# Altium schematic symbol library 8channel.SCHLIB: 90 symbols
Pins are listed as number, name and electrical type; pins without a type are passive.

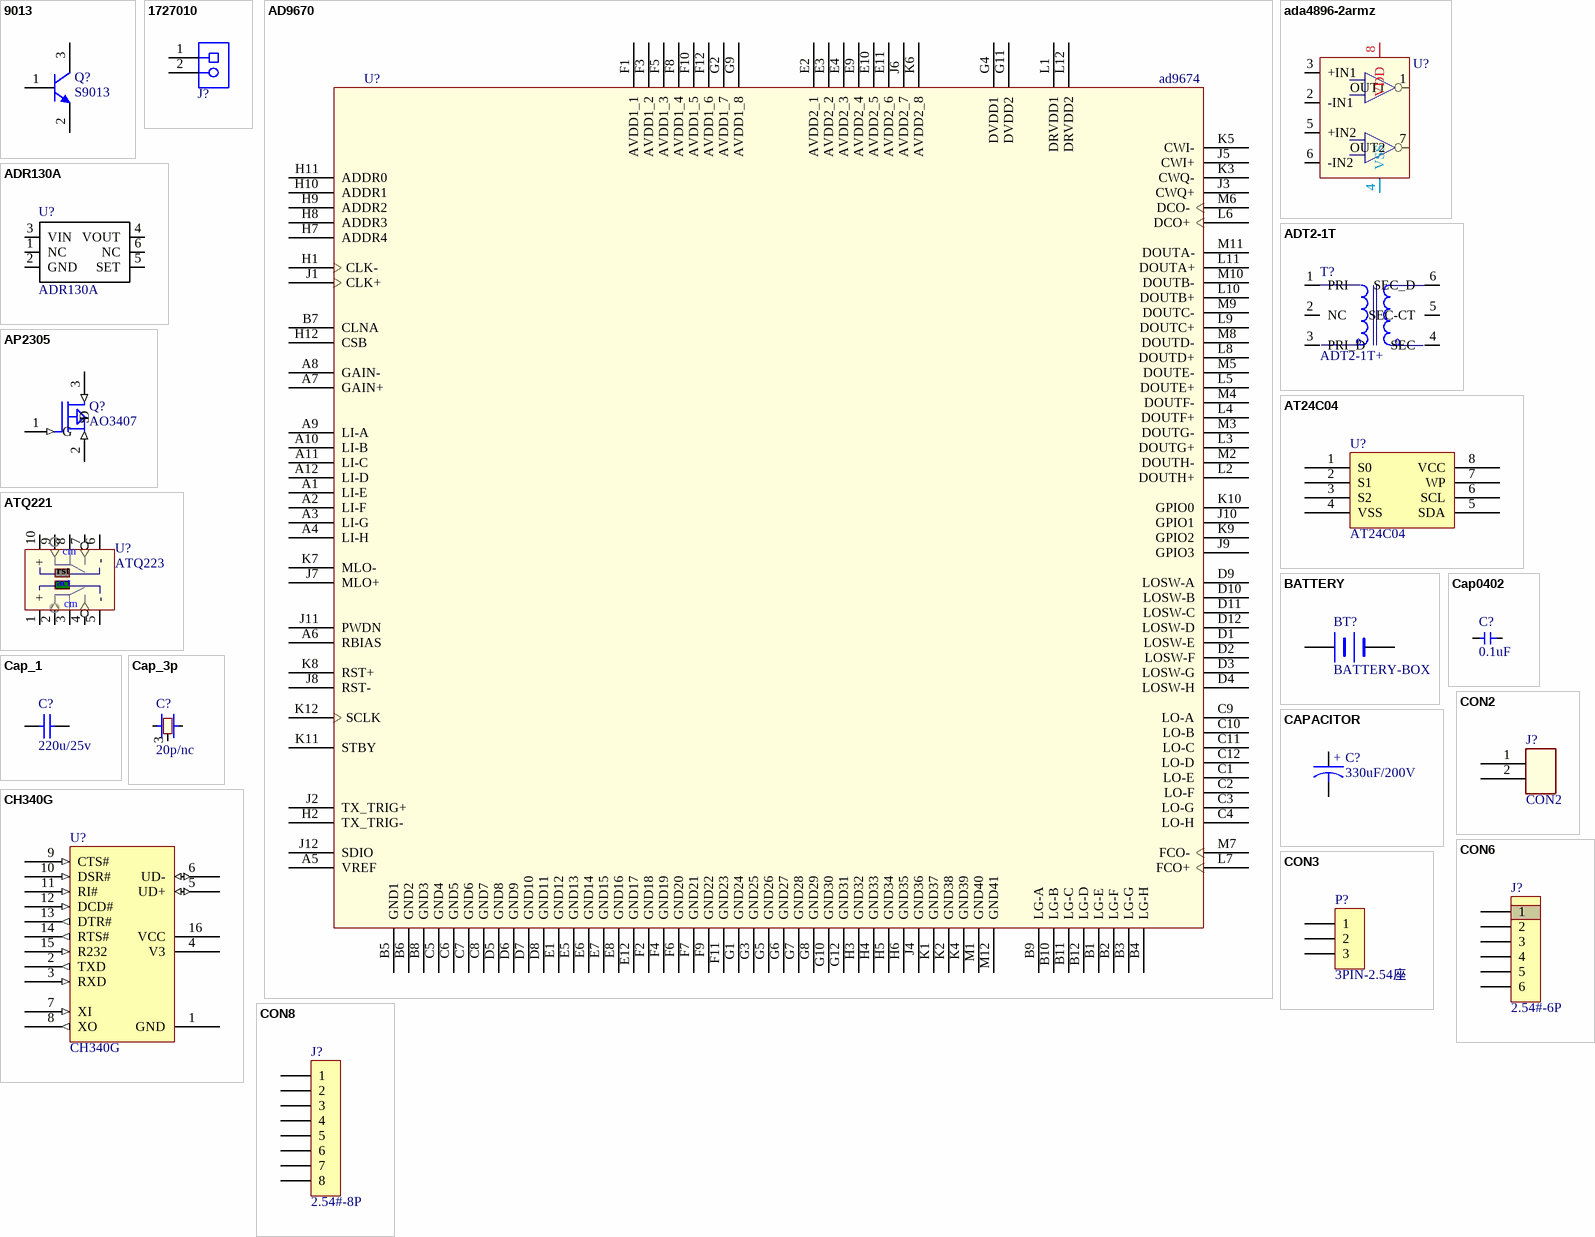
[diagram p0: symbols 9013 to CON8]

## 9013
designator Q?, comment S9013
NPN,S S9013,500mA; Revision 1: 11-Jul-2000: SIM Model Added.; Revision 2: 17-Jul-2002: Re-released for DXP Platform.; Revision 3: 15-Jan-2003: PCB Footprint 'BCY-W3/D4.7' replaced; Code - JEDEC: TO-92A; Published: 8-Jun-2000; Datasheet: Latest Revision: 1997; Package Reference: TO-92A; Publisher: Altium Limited
footprint SOT23
footprint SOT23-3
pins: 1 B, 2 E, 3 C

## 1727010
designator J?  (value not drawn)
Conn Term Block, 2POS, 3.81mm, TH; Manufacturer: Phoenix Contact; SymbolCreator: a0412235; CompType: Terminal Block; SymbolVersion: 2013-09-04; PartNumber: 1727010; PackageReference: 2POS Terminal Block; RoHS: Y; MountType: TH; ComponentLink1Description: Datasheet URL; ComponentLink1URL: http://eshop.phoenixcontact.com/phoenix/pdf.do?UID=1727010&general=usen; Publisher: Texas Instruments; LatestRevisionDate: 2017-01-19; Supplier 1: Digi-Key; Supplier Part Number 1: 277-1947-ND
footprint PhoenixConact_1727010
footprint PhoenixConact_1727010
pins: 1, 2

## AD9670
designator U?, comment ad9674
ADI,8 ch ultrasoinc AFE digi-demodule
footprint BC_144_1
pins: A1 LI-E, A2 LI-F, A3 LI-G, A4 LI-H, A5 VREF, A6 RBIAS, A7 GAIN+, A8 GAIN-, A9 LI-A, A10 LI-B, A11 LI-C, A12 LI-D, B1 LG-E, B2 LG-F, B3 LG-G, B4 LG-H, B5 GND1, B6 GND2, B7 CLNA, B8 GND3, B9 LG-A, B10 LG-B, B11 LG-C, B12 LG-D, C1 LO-E, C2 LO-F, C3 LO-G, C4 LO-H, C5 GND4, C6 GND5, C7 GND6, C8 GND7, C9 LO-A, C10 LO-B, C11 LO-C, C12 LO-D, D1 LOSW-E, D2 LOSW-F, D3 LOSW-G, D4 LOSW-H, D5 GND8, D6 GND9, D7 GND10, D8 GND11, D9 LOSW-A, D10 LOSW-B, D11 LOSW-C, D12 LOSW-D, E1 GND12, E2 AVDD2_1, E3 AVDD2_2, E4 AVDD2_3, E5 GND13, E6 GND14, E7 GND15, E8 GND16, E9 AVDD2_4, E10 AVDD2_5, E11 AVDD2_6, E12 GND17, F1 AVDD1_1, F2 GND18, F3 AVDD1_2, F4 GND19, F5 AVDD1_3, F6 GND20, F7 GND21, F8 AVDD1_4, F9 GND22, F10 AVDD1_5, F11 GND23, F12 AVDD1_6, G1 GND24, G2 AVDD1_7, G3 GND25, G4 DVDD1, G5 GND26, G6 GND27, G7 GND28, G8 GND29, G9 AVDD1_8, G10 GND30, G11 DVDD2, G12 GND31, H1 CLK-, H2 TX_TRIG-, H3 GND32, H4 GND33, H5 GND34, H6 GND35, H7 ADDR4, H8 ADDR3, H9 ADDR2, H10 ADDR1, H11 ADDR0, H12 CSB, J1 CLK+, J2 TX_TRIG+, J3 CWQ+, J4 GND36, J5 CWI+, J6 AVDD2_7, J7 MLO+, J8 RST-, J9 GPIO3, J10 GPIO1, J11 PWDN, J12 SDIO, K1 GND37, K2 GND38, K3 CWQ-, K4 GND39, K5 CWI-, K6 AVDD2_8, K7 MLO-, K8 RST+, K9 GPIO2, K10 GPIO0, K11 STBY, K12 SCLK, L1 DRVDD1, L2 DOUTH+, L3 DOUTG+, L4 DOUTF+, L5 DOUTE+, L6 DCO+, L7 FCO+, L8 DOUTD+, L9 DOUTC+, L10 DOUTB+, L11 DOUTA+, L12 DRVDD2, M1 GND40, M2 DOUTH-, M3 DOUTG-, M4 DOUTF-, M5 DOUTE-, M6 DCO-, M7 FCO-, M8 DOUTD-, M9 DOUTC-, M10 DOUTB-, M11 DOUTA-, M12 GND41

## ada4896-2armz
designator U?, comment R2R Amp x2,Vdd+Vss  (value not drawn)
footprint MSOP8 (0.65PITCH,WIDTH5MM)
pins: 1 OUT1, 2 -IN1, 3 +IN1, 4 VSS, 5 +IN2, 6 -IN2, 7 OUT2, 8 VDD

## ADR130A
designator U?
ADR130AUJZ-REEL7,volt-ref,4ma,Vin2-18v,28rmb; RefDes: RefDes; Type: DEV; Value: Value
footprint UJ_6
pins: 1 NC, 2 GND, 3 VIN, 4 VOUT, 5 SET, 6 NC

## ADT2-1T
designator T?, comment ADT2-1T+
MINI-CIRCUITS,0.4-500MHZ SECONDARY/PRIMARY2:1 RF trans,50R,0.25W
footprint SOP254P770X284-6N (SOP, 6-Leads, Body 7.9x5.6mm (max), Pitch 2.54mm, IPC Medium Density)
pins: 1 PRI, 2 NC, 3 PRI_D, 4 SEC, 5 SEC-CT, 6 SEC_D

## AP2305
designator Q?, comment AO3407
PMOS,4A,30V
footprint SOT-23
pins: 1 G (in), 2 S (in), 3 D (in)

## AT24C04
designator U?
footprint AT24C04-SOP8-A
pins: 1 S0, 2 S1, 3 S2, 4 VSS, 5 SDA, 6 SCL, 7 WP, 8 VCC
2 alternate drawings of the same symbol

## ATQ221
designator U?, comment ATQ223
TQ2SA-L2-3,ATQ221SAZ松下，双线圈磁保持型
footprint SOP10-ATQ221 (panasonic ATQ221 relay)
pins: 1 +, 2, 3, 4, 5 -, 6 -, 7 4, 8 3, 9 2, 10 +
text: cm; rst; act

## BATTERY
designator BT?, comment BATTERY-BOX
Battery
footprint BATTERY
pins: 1 +, 2 -
2 alternate drawings of the same symbol

## Cap0402
designator C?, comment 0.1uF
Ceramic Cap; Published: 8-Jun-2000; LatestRevisionDate: 17-Jul-2002; LatestRevisionNote: Re-released for DXP Platform.; PackageReference: RAD-0.3; Publisher: Altium Limited
footprint RAD-0.3 (Capacitor; 2 Leads)
footprint VP32-3.2 (Capacitor, Ceramic, Thru-Hole, Dipped Radial; Body 5.1 x 3.2 mm (WxT) Pin Spacing 2.54 mm (typ))
footprint VP45-3.2 (Capacitor, Ceramic, Thru-Hole, Dipped Radial; Body 7.8 x 3.2 mm (WxT) Pin Spacing 5.08 mm (typ))
footprint C0603
footprint C0402
pins: 1, 2

## Cap_1
designator C?, comment 220u/25v
220u/1206; Published: 8-Jun-2000; Revision: July-2002: Re-released for DXP Platform.; Publisher: Altium Limited
footprint 0603
footprint 1206
footprint 0805
footprint CAP_3KV
footprint 0402
pins: 1, 2

## Cap_3p
designator C?, comment 20p/nc
Capacitor; Published: 8-Jun-2000; Revision: July-2002: Re-released for DXP Platform.; Publisher: Altium Limited
footprint C0805-3P (C0805，NFM or NFL)
pins: 1, 2, 3 G

## CAPACITOR
designator C?, comment 330uF/200V
Capacitor
footprint PEG225-27
footprint CAP_SMD9
footprint 1206
footprint 7343
footprint P1812 (Chip Capacitor; Body 4.5 x 3.2 mm (LxW typ))
footprint CAP-17mm-7mm (body17mm,pin-pitch7mm)
footprint CAP_SMD7 (body7mm)
footprint CAP_SMD12_5
pins: 1, 2
text: +

## CH340G
designator U?
USB to UART
footprint SSOP16 (Footprint not found)
pins: 1 GND (power), 2 TXD (out), 3 RXD (in), 4 V3 (power), 5 UD+ (io), 6 UD- (io), 7 XI (in), 8 XO (out), 9 CTS# (in), 10 DSR# (in), 11 RI# (in), 12 DCD# (in), 13 DTR# (out), 14 RTS# (out), 15 R232 (in), 16 VCC (power)

## CON2
designator J?
PIN2-2.54,SOCKET
footprint CON2_2_54P
pins: 1, 2

## CON3
designator P?, comment 3PIN-2.54座
Connector
footprint SIP2
footprint HDR1X2 (Connector; Header; 2 Position)
footprint HDR* (Footprint not found)
footprint HDR1X3 (Connector; Header; 3 Position)
pins: 1, 2, 3

## CON6
designator J?, comment 2.54#-6P
6 pins,pitch 2.54mm
footprint SIP8
footprint SIP6 (Pitch=2.54,6 pin)
pins: 1, 2, 3, 4, 5, 6

## CON8
designator J?, comment 2.54#-8P
Connector
footprint SIP8
pins: 1, 2, 3, 4, 5, 6, 7, 8

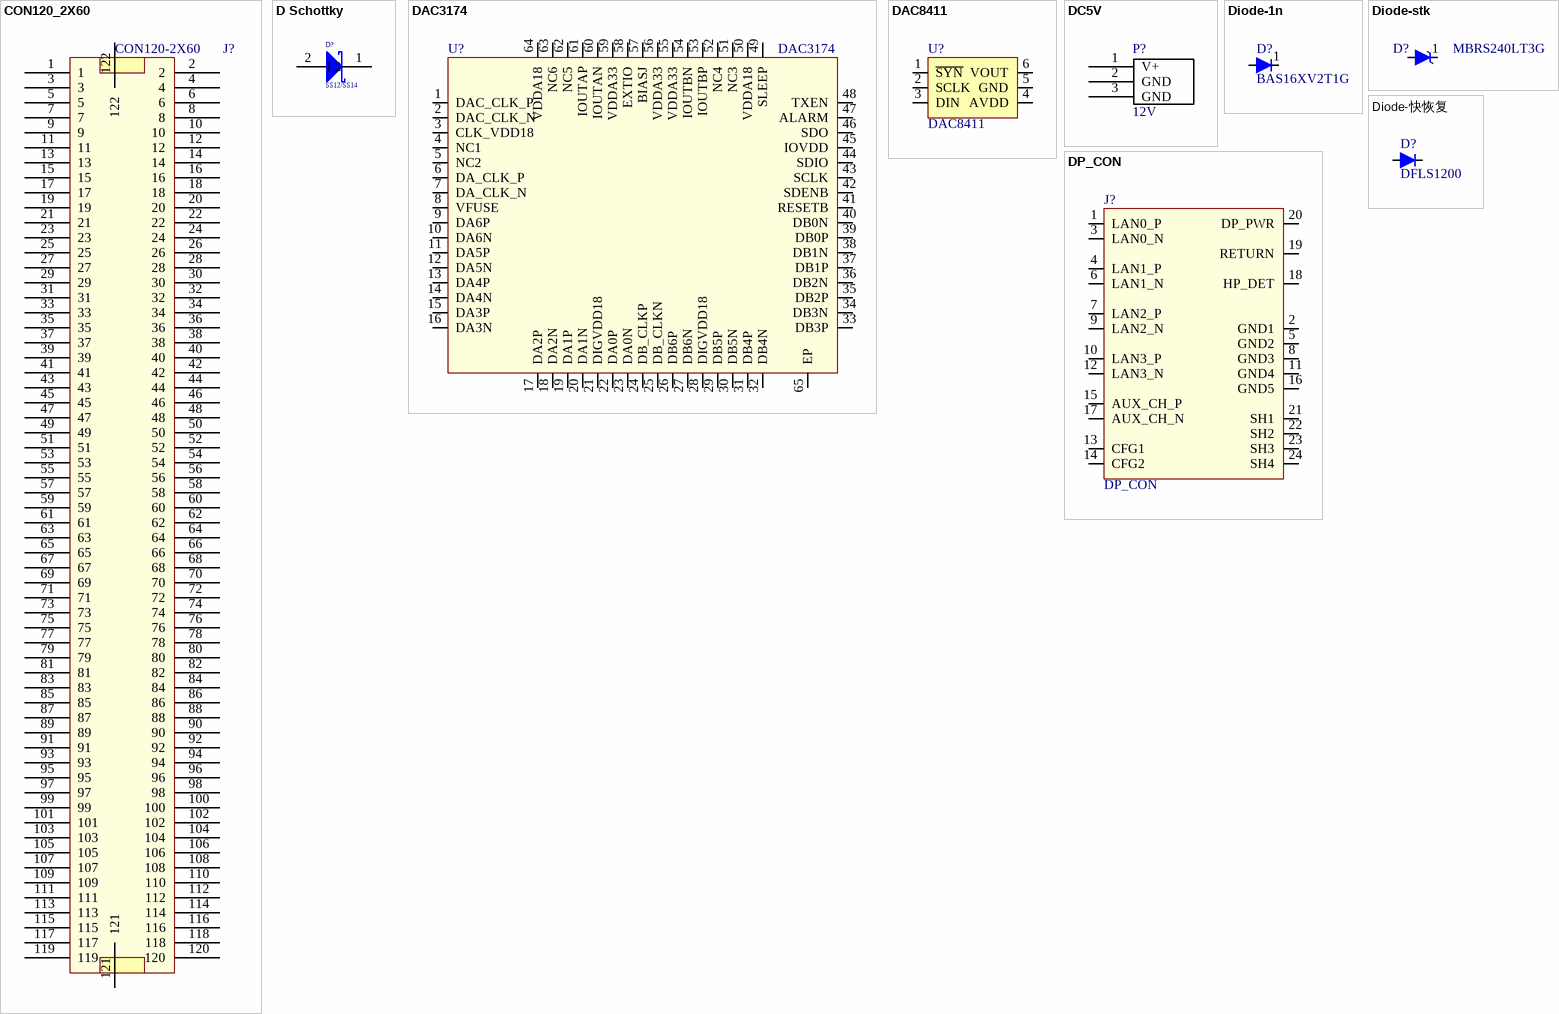
[diagram p1: symbols CON120_2X60 to DP_CON]

## CON120_2X60
designator J?, comment CON120-2X60
PANASONIC,AXK6A2337YG,120PIN MALE
footprint AXK6A2337YG
pins: 1, 2, 3, 4, 5, 6, 7, 8, 9, 10, 11, 12, 13, 14, 15, 16, 17, 18, 19, 20, 21, 22, 23, 24, 25, 26, 27, 28, 29, 30, 31, 32, 33, 34, 35, 36, 37, 38, 39, 40, 41, 42, 43, 44, 45, 46, 47, 48, 49, 50, 51, 52, 53, 54, 55, 56, 57, 58, 59, 60, 61, 62, 63, 64, 65, 66, 67, 68, 69, 70, 71, 72, 73, 74, 75, 76, 77, 78, 79, 80, 81, 82, 83, 84, 85, 86, 87, 88, 89, 90, 91, 92, 93, 94, 95, 96, 97, 98, 99, 100, 101, 102, 103, 104, 105, 106, 107, 108, 109, 110, 111, 112, 113, 114, 115, 116, 117, 118, 119, 120, 121, 122

## D Schottky
designator D?, comment SS12/SS14
Schottky Diode; Published: 8-Jun-2000; LatestRevisionDate: 17-Jul-2002; LatestRevisionNote: Re-released for DXP Platform.; PackageReference: SMB; Publisher: Altium Limited; Code_JEDEC: DO-214-AA
footprint TVR1812
footprint SMA/DO-214AC-# (高1.91-2.67)
footprint DO-214AC# (Pin1负，高1.91-2.67)
pins: 1, 2

## DAC3174
designator U?
2CH,DAC,15BIT 500M,300RMB
footprint QFN50P900X900X80-64N (QFN, 64-Leads, Body 8.9x8.9mm (max), Pitch 0.50mm, IPC Medium Density)
pins: 1 DAC_CLK_P, 2 DAC_CLK_N, 3 CLK_VDD18, 4 NC1, 5 NC2, 6 DA_CLK_P, 7 DA_CLK_N, 8 VFUSE, 9 DA6P, 10 DA6N, 11 DA5P, 12 DA5N, 13 DA4P, 14 DA4N, 15 DA3P, 16 DA3N, 17 DA2P, 18 DA2N, 19 DA1P, 20 DA1N, 21 DIGVDD18, 22 DA0P, 23 DA0N, 24 DB_CLKP, 25 DB_CLKN, 26 DB6P, 27 DB6N, 28 DIGVDD18, 29 DB5P, 30 DB5N, 31 DB4P, 32 DB4N, 33 DB3P, 34 DB3N, 35 DB2P, 36 DB2N, 37 DB1P, 38 DB1N, 39 DB0P, 40 DB0N, 41 RESETB, 42 SDENB, 43 SCLK, 44 SDIO, 45 IOVDD, 46 SDO, 47 ALARM, 48 TXEN, 49 SLEEP, 50 VDDA18, 51 NC3, 52 NC4, 53 IOUTBP, 54 IOUTBN, 55 VDDA33, 56 VDDA33, 57 BIASJ, 58 EXTIO, 59 VDDA33, 60 IOUTAN, 61 IOUTAP, 62 NC5, 63 NC6, 64 VDDA18, 65 EP

## DAC8411
designator U?
TI,16BITS DAC
footprint PLR0504F_TSOP6
pins: 1 ~{SYN}, 2 SCLK, 3 DIN, 4 AVDD, 5 GND, 6 VOUT

## DC5V
designator P?, comment 12V
footprint DC005-2.0MM (DC005-2.0)
pins: 1 V+, 2 GND, 3 GND

## Diode-1n
designator D?, comment BAS16XV2T1G
pin1-negative,BAS16XV2T1G,onsemi,Mark-A6,package SOD523/0603
footprint D0805
footprint D1206
footprint D1605-DIP
footprint D8060-SMD
footprint D7227-SMD-SS(1-3)4
footprint sod523 (BAS16XV2T1G)
pins: 1 K "negative", 2 A

## Diode-stk
designator D?, comment MBRS240LT3G
Schottky Diode,pin1-negative,BMBRS240LT3G,onsemi
footprint D0805
footprint D1206
footprint sod523 (BAS16XV2T1G)
footprint SMB/CASE403A (Pin1-Negative)
pins: 1 K "negative", 2 A "Postive"

## Diode-快恢复
designator D?, comment DFLS1200
DFLS1200,VR200V,DIODES INCOR
footprint D0805
footprint D1206
footprint D1605-DIP
footprint D8060-SMD
footprint D7227-SMD-SS(1-3)4
footprint D1206-2N (,Pin2-Negative)
pins: 1 A, 2 K

## DP_CON
designator J?
DP DISPLAY CONNECT,CON_MOLEX_47272
footprint CON_MOLEX_47272
pins: 1 LAN0_P, 2 GND1, 3 LAN0_N, 4 LAN1_P, 5 GND2, 6 LAN1_N, 7 LAN2_P, 8 GND3, 9 LAN2_N, 10 LAN3_P, 11 GND4, 12 LAN3_N, 13 CFG1, 14 CFG2, 15 AUX_CH_P, 16 GND5, 17 AUX_CH_N, 18 HP_DET, 19 RETURN, 20 DP_PWR, 21 SH1, 22 SH2, 23 SH3, 24 SH4

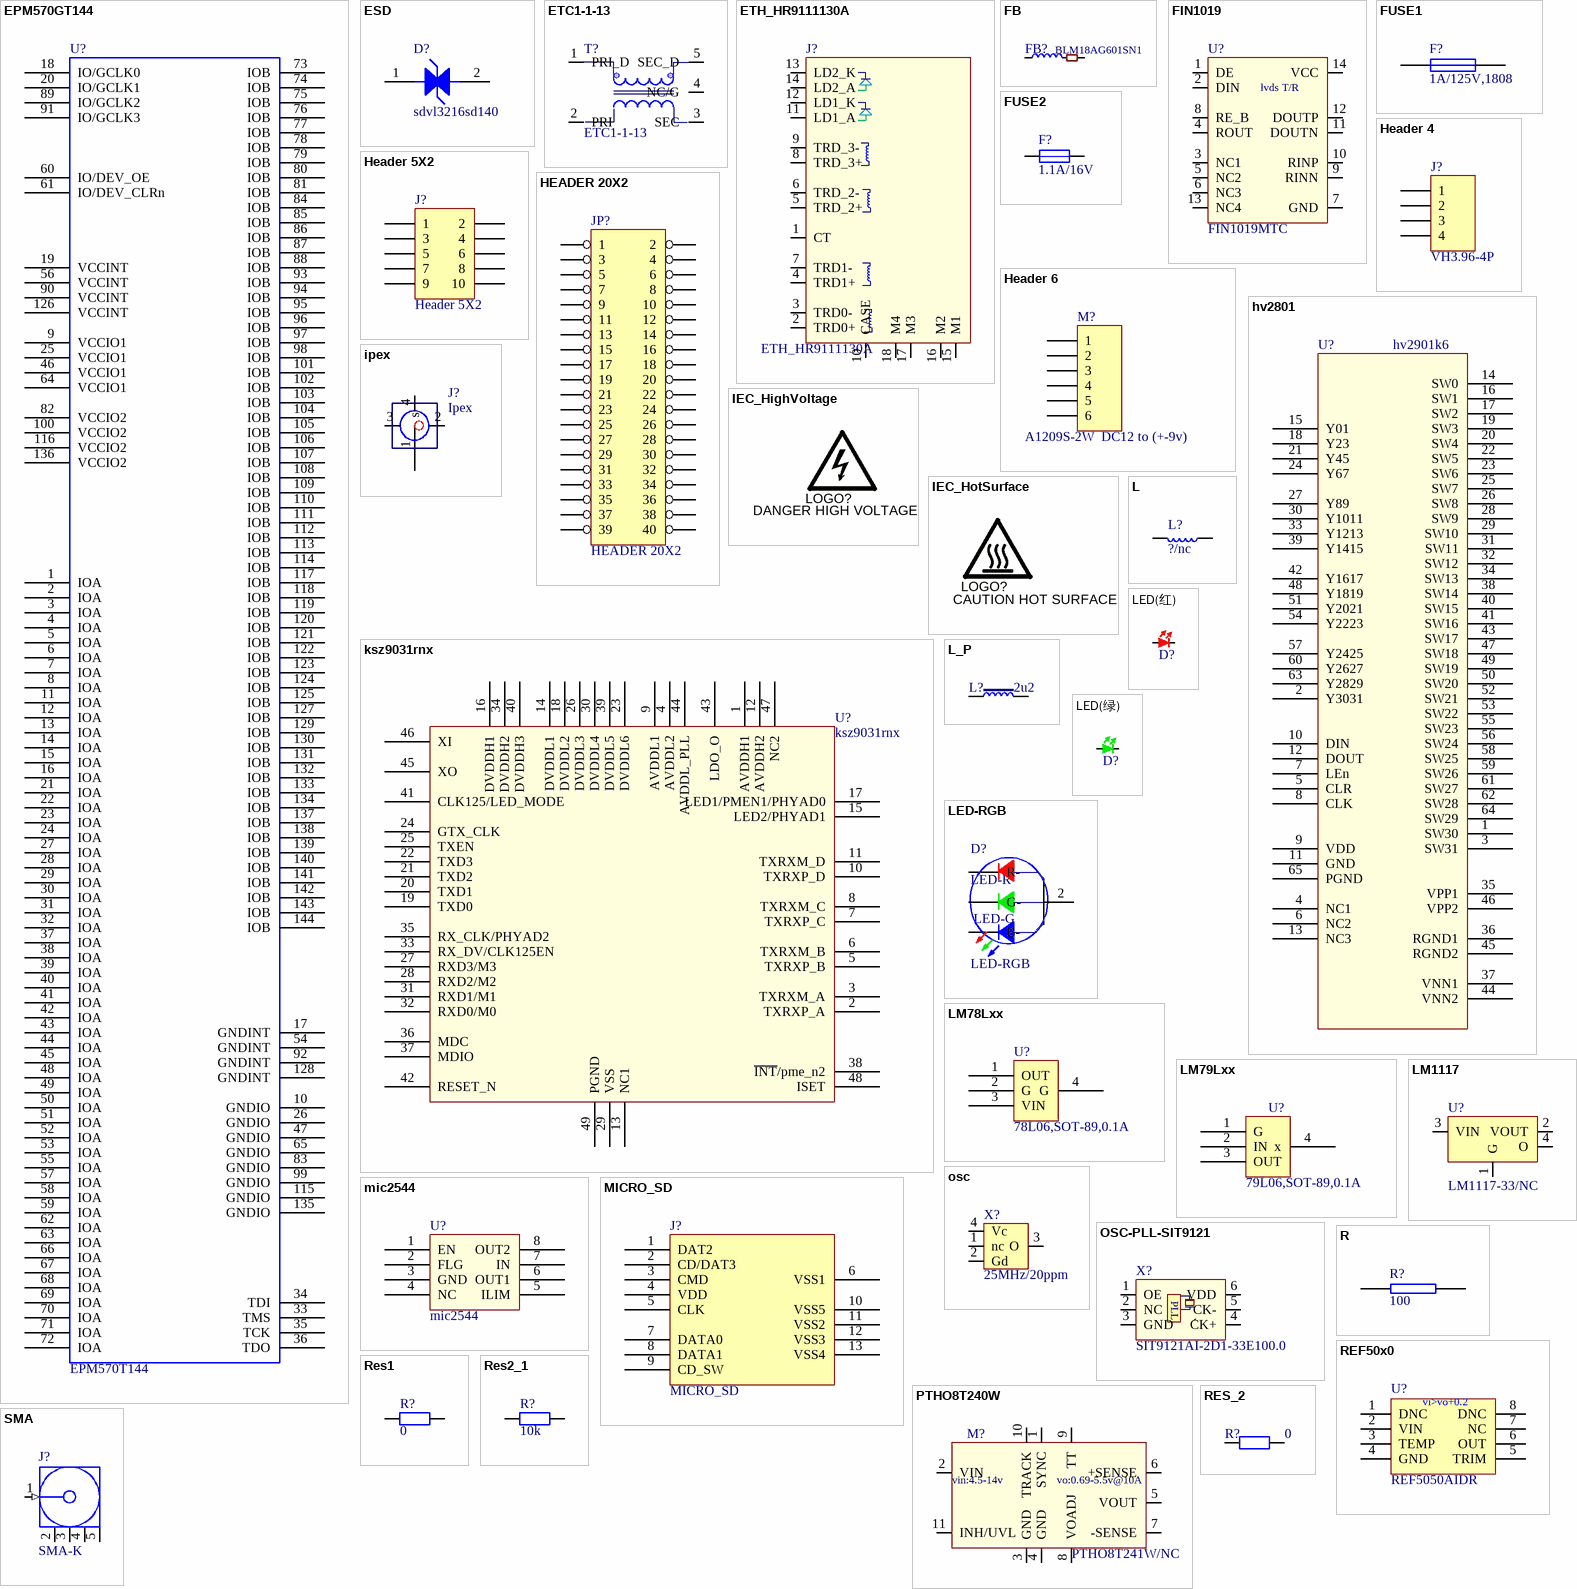
[diagram p2: symbols EPM570GT144 to SMA]

## EPM570GT144
designator U?, comment EPM570T144
altera CPLD
footprint LQFP144D28
footprint TQFP144_N (Thin QFP, 144-Leads, Body 20x20mm, Pitch 0.5mm, IPC Medium Density)
pins: 1 IOA, 2 IOA, 3 IOA, 4 IOA, 5 IOA, 6 IOA, 7 IOA, 8 IOA, 9 VCCIO1, 10 GNDIO, 11 IOA, 12 IOA, 13 IOA, 14 IOA, 15 IOA, 16 IOA, 17 GNDINT, 18 IO/GCLK0, 19 VCCINT, 20 IO/GCLK1, 21 IOA, 22 IOA, 23 IOA, 24 IOA, 25 VCCIO1, 26 GNDIO, 27 IOA, 28 IOA, 29 IOA, 30 IOA, 31 IOA, 32 IOA, 33 TMS, 34 TDI, 35 TCK, 36 TDO, 37 IOA, 38 IOA, 39 IOA, 40 IOA, 41 IOA, 42 IOA, 43 IOA, 44 IOA, 45 IOA, 46 VCCIO1, 47 GNDIO, 48 IOA, 49 IOA, 50 IOA, 51 IOA, 52 IOA, 53 IOA, 54 GNDINT, 55 IOA, 56 VCCINT, 57 IOA, 58 IOA, 59 IOA, 60 IO/DEV_OE, 61 IO/DEV_CLRn, 62 IOA, 63 IOA, 64 VCCIO1, 65 GNDIO, 66 IOA, 67 IOA, 68 IOA, 69 IOA, 70 IOA, 71 IOA, 72 IOA, 73 IOB, 74 IOB, 75 IOB, 76 IOB, 77 IOB, 78 IOB, 79 IOB, 80 IOB, 81 IOB, 82 VCCIO2, 83 GNDIO, 84 IOB, 85 IOB, 86 IOB, 87 IOB, 88 IOB, 89 IO/GCLK2, 90 VCCINT, 91 IO/GCLK3, 92 GNDINT, 93 IOB, 94 IOB, 95 IOB, 96 IOB, 97 IOB, 98 IOB, 99 GNDIO, 100 VCCIO2, 101 IOB, 102 IOB, 103 IOB, 104 IOB, 105 IOB, 106 IOB, 107 IOB, 108 IOB, 109 IOB, 110 IOB, 111 IOB, 112 IOB, 113 IOB, 114 IOB, 115 GNDIO, 116 VCCIO2, 117 IOB, 118 IOB, 119 IOB, 120 IOB, 121 IOB, 122 IOB, 123 IOB, 124 IOB, 125 IOB, 126 VCCINT, 127 IOB, 128 GNDINT, 129 IOB, 130 IOB, 131 IOB, 132 IOB, 133 IOB, 134 IOB, 135 GNDIO, 136 VCCIO2, 137 IOB, 138 IOB, 139 IOB, 140 IOB, 141 IOB, 142 IOB, 143 IOB, 144 IOB

## ESD
designator D?, comment sdvl3216sd140
footprint 0402
footprint L-1206#
footprint D1812
pins: 1, 2

## ETC1-1-13
designator T?
MACON,4.5-3000MHZ 1:1 RF trans
footprint SOT127P490X280-5N (SOT23, 5-Leads, Body 3.8x5.0mm (max), Pitch 1.27mm, IPC Medium Density)
pins: 1 PRI_D, 2 PRI, 3 SEC, 4 NC/G, 5 SEC_D

## ETH_HR9111130A
designator J?
footprint GE_RJ45
pins: 1 CT, 2 TRD0+, 3 TRD0-, 4 TRD1+, 5 TRD_2+, 6 TRD_2-, 7 TRD1-, 8 TRD_3+, 9 TRD_3-, 10 CASE, 11 LD1_A, 12 LD1_K, 13 LD2_K, 14 LD2_A, 15 M1, 16 M2, 17 M3, 18 M4

## FB
designator FB?, comment BLM18AG601SN1
Ferrite Bead,600R@100M,25%,200mA,0603; Published: 8-Jun-2000; Revision: July-2002: Re-released for DXP Platform.; Publisher: Altium Limited
footprint 0603
footprint 1206
footprint 0805
footprint 2512
pins: 1, 2
1 alternate drawing of the same symbol

## FIN1019
designator U?, comment FIN1019MTC
HS LVDS T/R
footprint TSSOP_14
pins: 1 DE, 2 DIN, 3 NC1, 4 ROUT, 5 NC2, 6 NC3, 7 GND, 8 RE_B, 9 RINN, 10 RINP, 11 DOUTN, 12 DOUTP, 13 NC4, 14 VCC
text: lvds T/R

## FUSE1
designator F?, comment 1A/125V,1808
PPTC SMD Fuse,1A/125V,1808
footprint 2220
footprint 1812 (Chip Capacitor; Body 4.5 x 3.2 mm (LxW typ))
pins: 1, 2

## FUSE2
designator F?, comment 1.1A/16V
Fuse
footprint 2220
footprint 1812 (Chip Capacitor; Body 4.5 x 3.2 mm (LxW typ))
pins: 1, 2

## Header 4
designator J?, comment VH3.96-4P
Header, 4-Pin; LatestRevisionDate: 17-Jul-2002; LatestRevisionNote: Re-released for DXP Platform.; Publisher: Altium Limited
signal-integrity model Connector
footprint VH3.96-4P
footprint XH2.54-4P
footprint VH3.96-4P
pins: 1, 2, 3, 4

## Header 5X2
designator J?
Header, 5-Pin, Dual row; LatestRevisionDate: 17-Jul-2002; LatestRevisionNote: Re-released for DXP Platform.; Publisher: Altium Limited
footprint HDR2X5 (Connector; Header; 5x2 Position)
signal-integrity model Connector
pins: 1, 2, 3, 4, 5, 6, 7, 8, 9, 10

## Header 6
designator M?, comment A1209S-2W  DC12 to (+-9v)
Header, 6-Pin; LatestRevisionDate: 17-Jul-2002; LatestRevisionNote: Re-released for DXP Platform.; Publisher: Altium Limited
footprint HDR1X6 (Connector; Header; 6 Position)
signal-integrity model Connector
footprint FTSH-10 (SOP, 10-Leads, Body 10.5x3.0mm (max), Pitch 1.27mm, IPC Medium Density)
footprint CN-P2.54-FAT-6P
pins: 1, 2, 3, 4, 5, 6

## HEADER 20X2
designator JP?
footprint IDC-40J
pins: 1, 2, 3, 4, 5, 6, 7, 8, 9, 10, 11, 12, 13, 14, 15, 16, 17, 18, 19, 20, 21, 22, 23, 24, 25, 26, 27, 28, 29, 30, 31, 32, 33, 34, 35, 36, 37, 38, 39, 40

## hv2801
designator U?, comment hv2901k6
microchip,32ch high-volt analog switch
footprint QFN64 (Footprint not found)
footprint QFN50P900X900X100-64N (QFN, 64-Leads, Body 9.1x9.1mm (max), Pitch 0.50mm, IPC Medium Density)
pins: 1 SW30, 2 Y3031, 3 SW31, 4 NC1, 5 CLR, 6 NC2, 7 LEn, 8 CLK, 9 VDD, 10 DIN, 11 GND, 12 DOUT, 13 NC3, 14 SW0, 15 Y01, 16 SW1, 17 SW2, 18 Y23, 19 SW3, 20 SW4, 21 Y45, 22 SW5, 23 SW6, 24 Y67, 25 SW7, 26 SW8, 27 Y89, 28 SW9, 29 SW10, 30 Y1011, 31 SW11, 32 SW12, 33 Y1213, 34 SW13, 35 VPP1, 36 RGND1, 37 VNN1, 38 SW14, 39 Y1415, 40 SW15, 41 SW16, 42 Y1617, 43 SW17, 44 VNN2, 45 RGND2, 46 VPP2, 47 SW18, 48 Y1819, 49 SW19, 50 SW20, 51 Y2021, 52 SW21, 53 SW22, 54 Y2223, 55 SW23, 56 SW24, 57 Y2425, 58 SW25, 59 SW26, 60 Y2627, 61 SW27, 62 SW28, 63 Y2829, 64 SW29, 65 PGND

## IEC_HighVoltage
designator LOGO?, comment DANGER HIGH VOLTAGE  (graphical)
IEC 61010-1 High Voltage Warning; SymbolCreator: a0412235; SymbolVersion: 2011-08-22; Published: 2009-03-03; Publisher: Texas Instruments; LatestRevisionDate: 2016-03-21
footprint IEC_HighVoltage_Large
footprint IEC_HighVoltage_Medium
footprint IEC_HighVoltage_Small
footprint IEC_HighVoltage_Small

## IEC_HotSurface
designator LOGO?, comment CAUTION HOT SURFACE  (graphical)
IEC 61010-1 Hot Surface Warning; SymbolCreator: a0412235; SymbolVersion: 2011-08-22; Published: 2009-03-03; Publisher: Texas Instruments; LatestRevisionDate: 2016-03-21
footprint IEC_HotSurface_Large
footprint IEC_HotSurface_Medium
footprint IEC_HotSurface_Small
footprint IEC_HotSurface_Small

## ipex
designator J?, comment Ipex
ULF, IPX 20279-001E , 3*3*1.25MM ,50Ω,0-4GHZ
footprint ipex-4p (4 pin,pad pitch 2.6mm,cylinder 2mm)
pins: 1 s, 2 g, 3 g2, 4 g3

## ksz9031rnx
designator U?
footprint QFN_7X7
pins: 1 AVDDH1, 2 TXRXP_A, 3 TXRXM_A, 4 AVDDL2, 5 TXRXP_B, 6 TXRXM_B, 7 TXRXP_C, 8 TXRXM_C, 9 AVDDL1, 10 TXRXP_D, 11 TXRXM_D, 12 AVDDH2, 13 NC1, 14 DVDDL1, 15 LED2/PHYAD1, 16 DVDDH1, 17 LED1/PMEN1/PHYAD0, 18 DVDDL2, 19 TXD0, 20 TXD1, 21 TXD2, 22 TXD3, 23 DVDDL6, 24 GTX_CLK, 25 TXEN, 26 DVDDL3, 27 RXD3/M3, 28 RXD2/M2, 29 VSS, 30 DVDDL4, 31 RXD1/M1, 32 RXD0/M0, 33 RX_DV/CLK125EN, 34 DVDDH2, 35 RX_CLK/PHYAD2, 36 MDC, 37 MDIO, 38 ~{INT}/pme_n2, 39 DVDDL5, 40 DVDDH3, 41 CLK125/LED_MODE, 42 RESET_N, 43 LDO_O, 44 AVDDL_PLL, 45 XO, 46 XI, 47 NC2, 48 ISET, 49 PGND

## L
designator L?, comment ?/nc
inductor; Published: 8-Jun-2000; Revision: July-2002: Re-released for DXP Platform.; Publisher: Altium Limited
footprint 0603
footprint 1206
footprint 0805
footprint 2512
pins: 1, 2
1 alternate drawing of the same symbol

## L_P
designator L?, comment 2u2
power inductor; Published: 8-Jun-2000; Revision: July-2002: Re-released for DXP Platform.; Publisher: Altium Limited
footprint 0603
footprint 1206
footprint 0805
footprint 2512
footprint CDRH6D38NP_5R
footprint COILCRAFT-1008PS
pins: 1, 2
1 alternate drawing of the same symbol

## LED(红)
designator D?  (value not drawn)
footprint LED0603
footprint LED0805
pins: 1, 2

## LED(绿)
designator D?  (value not drawn)
footprint LED0603
footprint LED0805
footprint LED-5mm (dip,2pin, pitch 2.7mm, diam 5mm)
pins: 1, 2

## LED-RGB
designator D?
Red+Green+Blue LED in One ball,4 pin
footprint LEDx3 (3 in 1 ball,5.8x8.8mm)
pins: 1 R-, 2 COM+, 3 G-, 4 B-
text: LED-R; LED-G

## LM78Lxx
designator U?, comment 78L06,SOT-89,0.1A
footprint SOT-223
footprint SOT-89 (SOT-89,small package of SOT-23)
pins: 1 OUT, 2 G, 3 VIN, 4 G

## LM79Lxx
designator U?, comment 79L06,SOT-89,0.1A
footprint SOT-223
footprint SOT-89 (SOT-89,small package of SOT-23)
pins: 1 G, 2 IN, 3 OUT, 4 x

## LM1117
designator U?, comment LM1117-33/NC
LDO,1A,国产大部分不稳定
footprint SOT-223#
pins: 1 G, 2 VOUT, 3 VIN, 4 O

## mic2544
designator U?
USB PROG CURRENT LIMIT
footprint MSOP8
pins: 1 EN, 2 FLG, 3 GND, 4 NC, 5 ILIM, 6 OUT1, 7 IN, 8 OUT2

## MICRO_SD
designator J?
MICRO_SD socket, 9P
footprint MICRO_SD
pins: 1 DAT2, 2 CD/DAT3, 3 CMD, 4 VDD, 5 CLK, 6 VSS1, 7 DATA0, 8 DATA1, 9 CD_SW, 10 VSS5, 11 VSS2, 12 VSS3, 13 VSS4

## osc
designator X?, comment 25MHz/20ppm
oscillator,25Mhz,20ppm,4pin,0.8-3.3Vin
footprint CRYSTAL-SMT7X5
footprint XTAL-5032 (SMT,5.0x3.2mm, pin1/3 sig;pin2/4 gnd)
footprint XTAL-3225 (SMT,3.2x2.5mm, pin1/3 sig;pin2/4 gnd)
footprint XTAL-2016 (SMT,2.05x1.65mm, pin1/3 sig;pin2/4 gnd)
pins: 1 nc, 2 Gd, 3 O, 4 Vc

## OSC-PLL-SIT9121
designator X?, comment SIT9121AI-2D1-33E100.0
PLL,high-speed lvds clock
footprint OSC6-5X7
pins: 1 OE, 2 NC, 3 GND, 4 CK+, 5 CK-, 6 VDD
text: PLL

## PTHO8T240W
designator M?, comment PTHO8T241W/NC
PTHO8T240W/241W,10A,Vin4.5-14V,Vout0.7-5.5V
footprint PTH08T24X_EBS (EBS,Throught-Hole-Model)
pins: 1 SYNC, 2 VIN, 3 GND, 4 GND, 5 VOUT, 6 +SENSE, 7 -SENSE, 8 VOADJ, 9 TT, 10 TRACK, 11 INH/UVL
text: vin:4.5-14v; vo:0.69-5.5v@10A

## R
designator R?, comment 100
SMD2512
footprint 2512
footprint 0805
pins: 1, 2

## REF50x0
designator U?, comment REF5050AIDR
TI,volt ref,
footprint SO-8
pins: 1 DNC, 2 VIN, 3 TEMP, 4 GND, 5 TRIM, 6 OUT, 7 NC, 8 DNC
text: vi>vo+0.2

## Res1
designator R?, comment 0
Resistor; Published: 8-Jun-2000; Revision: July-2002: Re-released for DXP Platform.; Publisher: Altium Limited
footprint 0603
footprint 1206
footprint 0805
footprint 2512
footprint 1210
footprint 2010L
pins: 1, 2
1 alternate drawing of the same symbol

## Res2_1
designator R?, comment 10k
Resistor; Published: 8-Jun-2000; Revision: July-2002: Re-released for DXP Platform.; Publisher: Altium Limited
footprint 0603
footprint 1206
footprint 0805
footprint 2512
footprint 0402 (Chip Capacitor; Body 1.0 x 0.5 mm (LxW typ))
pins: 1, 2
1 alternate drawing of the same symbol

## RES_2
designator R?, comment 0
Resistor; Published: 8-Jun-2000; LatestRevisionDate: 17-Jul-2002; LatestRevisionNote: Re-released for DXP Platform.; PackageReference: AXIAL-0.4; Publisher: Altium Limited
simulation model RESISTOR (Resistor)
signal-integrity model Res
footprint Model Name (Footprint not found)
footprint R0603
footprint R_0603
footprint 0402
pins: 1, 2

## SMA
designator J?, comment SMA-K
SMA-K外螺纹+母; DatasheetVersion: revB, Feb-2010; PackageVersion: revB, Feb-2010; PackageReference: CON-SMA-L; PackageDescription: SMA Female PCB Mount Connector, Extended, Thru-Hole, 7 x 7 mm Body; ComponentLink1Description: Manufacturer URL; ComponentLink1URL: http://www.linxtechnologies.com/; ComponentLink2Description: Datasheet; ComponentLink2URL: http://www.connectorcity.com/diagrams/SMA/CONSMA008.pdf
footprint SMA_P
pins: 1 Signal (in) "Signal Pin", 2 GND (power), 3 GND (power), 4 GND (power), 5 GND (power)

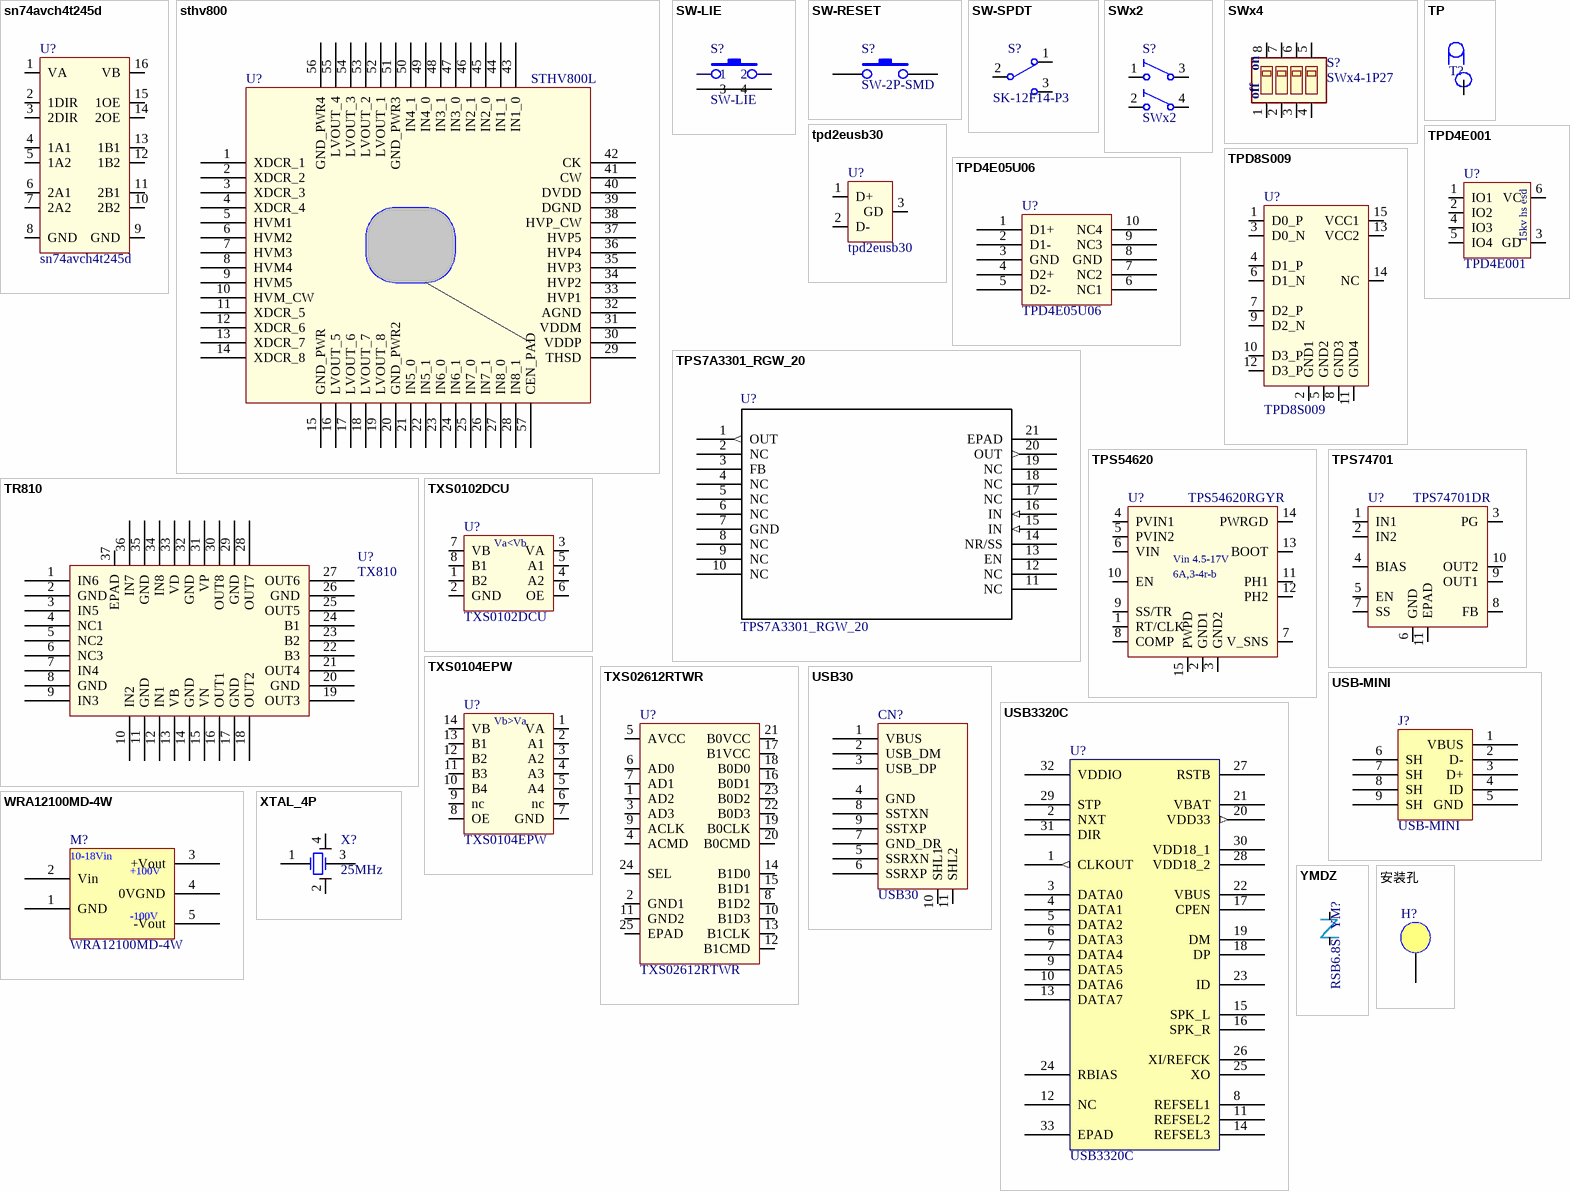
[diagram p3: symbols sn74avch4t245d to 安装孔]

## sn74avch4t245d
designator U?
TI,4 CH, LEVEL SHIFT,TRI-STATE
footprint TSOP16 (TSOP, 16-Leads, Body 5.1x4.5mm (max), Pitch 0.65mm, IPC Medium Density)
pins: 1 VA, 2 1DIR, 3 2DIR, 4 1A1, 5 1A2, 6 2A1, 7 2A2, 8 GND, 9 GND, 10 2B2, 11 2B1, 12 1B2, 13 1B1, 14 2OE, 15 1OE, 16 VB

## sthv800
designator U?, comment STHV800L
8 CH,20M,+-90V,HIGH VOLTAGE PULSE GENERATOR
footprint TFLGA-56LD (QFN, 56-Leads, Body 7.8x7.8mm (max), Pitch 0.45mm, IPC Medium Density)
pins: 1 XDCR_1, 2 XDCR_2, 3 XDCR_3, 4 XDCR_4, 5 HVM1, 6 HVM2, 7 HVM3, 8 HVM4, 9 HVM5, 10 HVM_CW, 11 XDCR_5, 12 XDCR_6, 13 XDCR_7, 14 XDCR_8, 15 GND_PWR, 16 LVOUT_5, 17 LVOUT_6, 18 LVOUT_7, 19 LVOUT_8, 20 GND_PWR2, 21 IN5_0, 22 IN5_1, 23 IN6_0, 24 IN6_1, 25 IN7_0, 26 IN7_1, 27 IN8_0, 28 IN8_1, 29 THSD, 30 VDDP, 31 VDDM, 32 AGND, 33 HVP1, 34 HVP2, 35 HVP3, 36 HVP4, 37 HVP5, 38 HVP_CW, 39 DGND, 40 DVDD, 41 CW, 42 CK, 43 IN1_0, 44 IN1_1, 45 IN2_0, 46 IN2_1, 47 IN3_0, 48 IN3_1, 49 IN4_0, 50 IN4_1, 51 GND_PWR3, 52 LVOUT_1, 53 LVOUT_2, 54 LVOUT_3, 55 LVOUT_4, 56 GND_PWR4, 57 CEN_PAD

## SW-LIE
designator S?
push-buttom 4pin lie
footprint SW4mini (SOP, 4-Leads, Body 4.5x4.5mm (max), Pitch 3.80mm, IPC Medium Density)
footprint SW-RESET-LIE (3*6*4.3mm,4pin,pitch 7mm)
pins: 1, 2, 3, 4

## SW-RESET
designator S?, comment SW-2P-SMD
footprint SW-RESET
footprint RESET-SMD
pins: 1, 2

## SW-SPDT
designator S?, comment SK-12F14-P3
SPDT Subminiature Toggle Switchn; Published: 24-Mar-1999; LatestRevisionDate: 17-Dec-2003; LatestRevisionNote: Schematic revised, PCB Footprint replaced.; DatasheetDocument: 05-Dec-2000; PackageReference: TL36WW15050; Publisher: Altium Limited; ComponentLink1Description: Manufacturer Link; ComponentLink1URL: http://www.apem.com
footprint SW_SIP3 (Connector; Header; 3 Position)
footprint SW-SK-12F14-P3.0-3P-S#
footprint SW-SS-12D19 (pitch 2.5,stand,9x3.5x3.5mm)
footprint SW-SMTS-102C3 (pitch 2.54,lie,8.3x8.3x5.2mm,1.5Amp)
pins: 1, 2 cm, 3

## SWx2
designator S?
Double-Pole, 2-Throw Switch,DIP,4 pin; Published: 24-Mar-1999; LatestRevisionDate: 17-Jul-2002; LatestRevisionNote: Re-released for DXP Platform.; PackageReference: DPST-4; Publisher: Altium Limited
footprint SWx2_2P54 (2 bit, 4 pin,data select switch)
pins: 1 COMMON1, 2 COMMON2, 3 NO1, 4 NO2

## SWx4
designator S?, comment SWx4-1P27
SW x4,1.27mm,4bits
footprint SWx4_1p27 (4-bits switch,SMD,pitch1.27)
footprint MH_250H125
footprint SWx4_1p27 (4-bits switch,SMD,pitch1.27)
pins: 1, 2, 3, 4, 5, 6, 7, 8
text: on; off

## TP
designator T?  (value not drawn)
footprint TP
footprint TP1.5 (hole 0.9mm,pad 1.5mm)
footprint TPOINT_S1.0
pins: 1 T "TestPoint/NC"

## tpd2eusb30
designator U?
TI HS ESD
footprint SOT3
pins: 1 D+, 2 D-, 3 GD

## TPD4E001
designator U?
4CH High-Speed ESD,2rmb
footprint TDFN6 (6-TDFN-EP)
pins: 1 IO1, 2 IO2, 3 GD, 4 IO3, 5 IO4, 6 VC
text: 15kv hs esd

## TPD4E05U06
designator U?
footprint SON10
pins: 1 D1+, 2 D1-, 3 GND, 4 D2+, 5 D2-, 6 NC1, 7 NC2, 8 GND, 9 NC3, 10 NC4

## TPD8S009
designator U?
TPD8S009DSMR
footprint SON_15P
pins: 1 D0_P, 2 GND1, 3 D0_N, 4 D1_P, 5 GND2, 6 D1_N, 7 D2_P, 8 GND3, 9 D2_N, 10 D3_P, 11 GND4, 12 D3_P, 13 VCC2, 14 NC, 15 VCC1

## TPS7A3301_RGW_20
designator U?
1a  negetive-Voltage LDO ,Vin -3~-36v; Vendor: Texas Instruments; PACKAGE_DESIGNATOR: RGW; PIN_COUNT: 20; FAMILY_NAME: SINGLE CHANNEL LDO; INDUSTRY_STD_PKG_TYPE: VQFN; Manufacturer_Part_Number: tps7a3301_rgw_20; GENERIC_PART_NUMBER: TPS7A3301; Datasheet URL: http://www.ti.com/lit/gpn/TPS7A3301; Manufacturer: Texas Instruments; RefDes: RefDes; Type: DEV; Value: Value
footprint RGW0020A
pins: 1 OUT (out), 2 NC, 3 FB, 4 NC, 5 NC, 6 NC, 7 GND (power), 8 NC, 9 NC, 10 NC, 11 NC, 12 NC, 13 EN, 14 NR/SS, 15 IN (in), 16 IN (in), 17 NC, 18 NC, 19 NC, 20 OUT (out), 21 EPAD

## TPS54620
designator U?, comment TPS54620RGYR
footprint VQFN_3_5
pins: 1 RT/CLK, 2 GND1, 3 GND2, 4 PVIN1, 5 PVIN2, 6 VIN, 7 V_SNS, 8 COMP, 9 SS/TR, 10 EN, 11 PH1, 12 PH2, 13 BOOT, 14 PWRGD, 15 PWPD
text: Vin 4.5-17V; 6A,3-4r-b

## TPS74701
designator U?, comment TPS74701DR
500mA LDO,Vin 0.8-5.5V,50mA Drop,2-3RMB
footprint SON10_3X3_EP (SON10_3X3)
pins: 1 IN1, 2 IN2, 3 PG, 4 BIAS, 5 EN, 6 GND, 7 SS, 8 FB, 9 OUT1, 10 OUT2, 11 EPAD

## TR810
designator U?, comment TX810
8CH PROG T/R US SWITCH
footprint QFN50P600X600X100-36N (QFN, 36-Leads, Body 6.1x6.1mm (max), Pitch 0.50mm, IPC Medium Density)
footprint PQFN36
pins: 1 IN6, 2 GND, 3 IN5, 4 NC1, 5 NC2, 6 NC3, 7 IN4, 8 GND, 9 IN3, 10 IN2, 11 GND, 12 IN1, 13 VB, 14 GND, 15 VN, 16 OUT1, 17 GND, 18 OUT2, 19 OUT3, 20 GND, 21 OUT4, 22 B3, 23 B2, 24 B1, 25 OUT5, 26 GND, 27 OUT6, 28 OUT7, 29 GND, 30 OUT8, 31 VP, 32 GND, 33 VD, 34 IN8, 35 GND, 36 IN7, 37 EPAD

## TXS0102DCU
designator U?
TI,2BITS 2-DIR LEVEL SHIFT FOR USART,OPEN COLLECT,VCCA<VCCB,Va1.65-3.6,Vb2.3-5.5V
footprint TSOP8_0.5 (TSOP, 8-Leads, Pitch 0.65mm, IPC Medium Density)
footprint TSSOP8 (TSSOP8,pitch0.5,width2.8mm)
pins: 1 B2, 2 GND, 3 VA, 4 A2, 5 A1, 6 OE, 7 VB, 8 B1
text: Va<Vb

## TXS0104EPW
designator U?
TI,4BITS 2-DIR LEVEL SHIFT FOR USART,OPEN COLLECT,VCCA<VCCB,Va1.65-3.6,Vb2.3-5.5V,max24Mbps
footprint TSOP14 (TSOP, 14-Leads, Body 5.1x4.5mm (max), Pitch 0.65mm, IPC Medium Density)
pins: 1 VA, 2 A1, 3 A2, 4 A3, 5 A4, 6 nc, 7 GND, 8 OE, 9 nc, 10 B4, 11 B3, 12 B2, 13 B1, 14 VB
text: Vb>Va

## TXS02612RTWR
designator U?
TI,SDIO LEVEL-SHIFT
footprint QFN24_RTW
pins: 1 AD2, 2 GND1, 3 AD3, 4 ACMD, 5 AVCC, 6 AD0, 7 AD1, 8 B1D2, 9 ACLK, 10 B1D3, 11 GND2, 12 B1CMD, 13 B1CLK, 14 B1D0, 15 B1D1, 16 B0D1, 17 B1VCC, 18 B0D0, 19 B0CLK, 20 B0CMD, 21 B0VCC, 22 B0D3, 23 B0D2, 24 SEL, 25 EPAD

## USB30
designator CN?
footprint USB3_AF_90
pins: 1 VBUS (power) "EPAD", 2 USB_DM (power) "EPAD", 3 USB_DP (power) "EPAD", 4 GND (power) "EPAD", 5 SSRXN (power) "EPAD", 6 SSRXP (power) "EPAD", 7 GND_DR (power), 8 SSTXN (power) "EPAD", 9 SSTXP (power) "EPAD", 10 SHL1 (power) "SHELL", 11 SHL2 (power) "SHELL"

## USB3320C
designator U?
USB2.0
footprint USB3320C
pins: 1 CLKOUT (out), 2 NXT, 3 DATA0, 4 DATA1, 5 DATA2, 6 DATA3, 7 DATA4, 8 REFSEL1, 9 DATA5, 10 DATA6, 11 REFSEL2, 12 NC, 13 DATA7, 14 REFSEL3, 15 SPK_L, 16 SPK_R, 17 CPEN, 18 DP, 19 DM, 20 VDD33 (out) "OUTPUT", 21 VBAT, 22 VBUS, 23 ID, 24 RBIAS, 25 XO, 26 XI/REFCK, 27 RSTB, 28 VDD18_2, 29 STP, 30 VDD18_1, 31 DIR, 32 VDDIO, 33 EPAD

## USB-MINI
designator J?
footprint USB-A
footprint MINIUSBB
pins: 1 VBUS, 2 D-, 3 D+, 4 ID, 5 GND, 6 SH, 7 SH, 8 SH, 9 SH

## WRA12100MD-4W
designator M?
广州能达，4W，10-18宽电压输入，隔离稳压正负双路+/-100V输出 DC/DC 模块电源
footprint WRA12-4W (DANENG MODULE,2 CH HIGH-VOLT OUT)
pins: 1 GND (power), 2 Vin, 3 +Vout (power), 4 0VGND (power), 5 -Vout (power)
text: 10-18Vin; +100V; -100V

## XTAL_4P
designator X?, comment 25MHz
Crystal Oscillator; Published: 8-Jun-2000; LatestRevisionDate: 17-Jul-2002; LatestRevisionNote: Re-released for DXP Platform.; PackageReference: R38; Publisher: Altium Limited
footprint XTAL-3225 (SMT,3.2x2.5mm, pin1/3 sig;pin2/4 gnd)
footprint XTAL-5032 (SMT,5.0x3.2mm, pin1/3 sig;pin2/4 gnd)
footprint XTAL-2016 (SMT,2.05x1.65mm, pin1/3 sig;pin2/4 gnd)
footprint SMT_XTAL
pins: 1 OSC1, 2, 3 OSC2, 4
2 alternate drawings of the same symbol

## YMDZ
designator YM?, comment RSB6.8S
RSB6.8S,BiTVS,6.8V,30pF,10W
footprint R-1206-G#
footprint R-0805#
footprint R0603
pins: 1, 2

## 安装孔
designator H?  (value not drawn)
footprint HOLE_3.2_7.0
footprint HOLE
pins: 1 (power)
2 alternate drawings of the same symbol